# Altium schematic symbol library CCS811.SchLib: 1 symbol
Pins are listed as number, name and electrical type; pins without a type are passive.

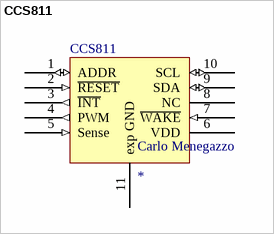
[diagram p0: symbol CCS811]

## CCS811
designator Carlo Menegazzo
The CCS811 is an ultra-low power digital gas sensor solution / which integrates a metal oxide (MOX) gas sensor to detect a / wide range of Volatile Organic Compounds (VOCs) for indoor / air quality monitoring with a microcontroller unit (MCU), which / includes an Analog-to-Digital converter (ADC), and an I²C / interface.; ComponentLink1Description: Datasheet; ComponentLink1URL: https://ams.com/documents/20143/36005/CCS811_DS000459_6-00.pdf/c7091525-c7e5-37ac-eedb-b6c6828b0dcf
pins: 1 ADDR (io) "Single address select bit to allow alternate address to be selected", 2 ~{RESET} (in) "nRESET is an active low input and is pulled up to VDD by default. nRESET is optional but 4.7kΩ pull-up and/or decoupling of the nRESET pin may be necessary to avoid erroneous noise-induced resets. This pin will be pulled low internally during reset.", 3 ~{INT} (out) "nINT is an active low optional output. It is pulled low by the CCS811 to indicate", 4 PWM (out), 5 Sense (in) "Heater current sense. Pins 4 and 5 must be connected together", 6 VDD (power) "Supply voltage.", 7 ~{WAKE} (in) "nWAKE is an active low input and should be asserted by the host prior to an I²C transaction and held low throughout.", 8 NC "No connect", 9 SDA (io) "SDA pin is used for I²C data. Should be pulled up to VDD with a resistor.", 10 SCL (io) "SCL pin is used for I²C clock. Should be pulled up to VDD with a resistor", 11 exp GND (power) "SCL pin is used for I²C clock. Should be pulled up to VDD with a resistor"